# Altium footprint library SOD375X160X128L31X60N.PcbLib: 1 footprints
Each footprint in its own frame and in the unit in brackets; x right, y up, seen from the top. Pads: shape width x height; smd on the part's side, far side on the other; paste and mask are expansions set on the pad; w line width, h text height; cw(c..) or ccw(c..) is an arc to the next point about the centre after c.
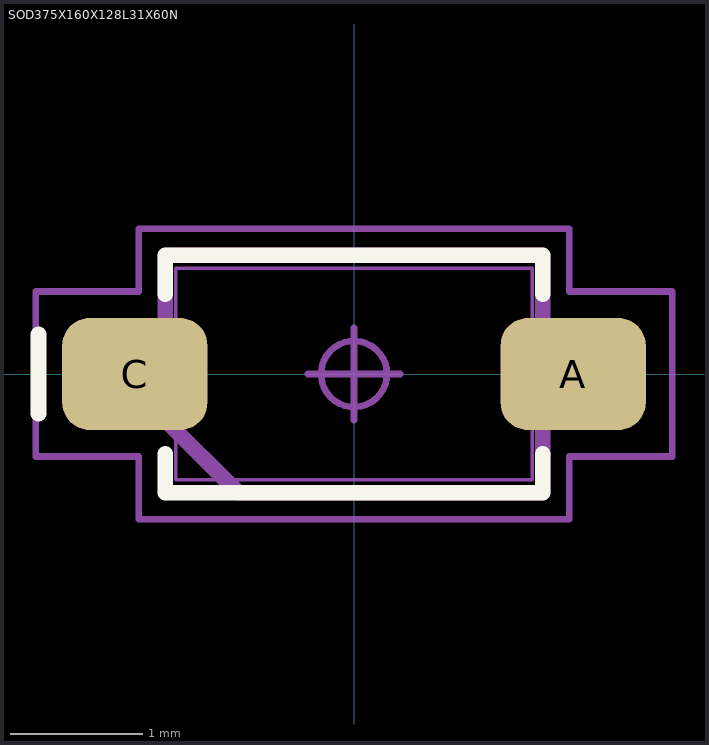
[diagram p0: the footprint, top view; thin cyan lines are the x and y axes]

## SOD375X160X128L31X60N [mm] "Diode, Small Outline Diode (SOD); 2.70 mm L X 1.60 mm W X 1.28 mm H body"
height 1.28
pads (2):
  rrect49% 1.1x0.85 smd: A(1.66,0) C(-1.66,0)
Top Overlay:
  lines w0.12: -2.39,-0.3 -2.39,0.3 ; -1.43,-0.605 -1.43,-0.9 1.43,-0.9 1.43,-0.605 ; -1.43,0.605 -1.43,0.9 1.43,0.9 1.43,0.605
Mechanical 3:
  lines w0.12: -1.43,-0.348 -0.878,-0.9 1.43,-0.9 1.43,0.9 -1.43,0.9 -1.43,-0.348
Mechanical 5:
  lines w0.025: -1.875,-0.3 -1.56,-0.3 -1.56,0.3 -1.875,0.3 -1.875,-0.3 ; -1.35,-0.8 -1.35,0.8 1.35,0.8 1.35,-0.8 -1.35,-0.8 ; 1.56,-0.3 1.56,0.3 1.875,0.3 1.875,-0.3 1.56,-0.3
Mechanical 7:
  circle w0.05: c0,0 r0.25
  lines w0.05: -0.35,0 0.35,0 ; 0,-0.35 0,0.35 ; -2.41,-0.625 -2.41,0.625 -1.63,0.625 -1.63,1.1 1.63,1.1 1.63,0.625 2.41,0.625 2.41,-0.625 1.63,-0.625 1.63,-1.1 -1.63,-1.1 -1.63,-0.625 -2.41,-0.625
Mechanical 9:
  text "'.Designator'" at -5.842,-0.254 h1
3D body "SOD375X160X128L31X60.STEP": height 1.28, standoff 0, extent -1.875,-0.8 1.875,0.8
3D body: height 1, standoff 0, extent -2.41,-1.1 2.41,1.1